# Altium schematic symbol library Schlib1.SchLib: 1 symbol
Pins are listed as number, name and electrical type; pins without a type are passive.

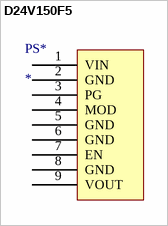
[diagram p0: symbol D24V150F5]

## D24V150F5
designator PS*
5V, 15A Step-Down Voltage Regulator
footprint D24V150F5 (PS*)
pins: 1 VIN, 2 GND, 3 PG, 4 MOD, 5 GND, 6 GND, 7 EN, 8 GND, 9 VOUT